# Altium integrated library ON Semi Transient Voltage Suppressors (TVS).IntLib: 730 symbols (part 7 of 17)
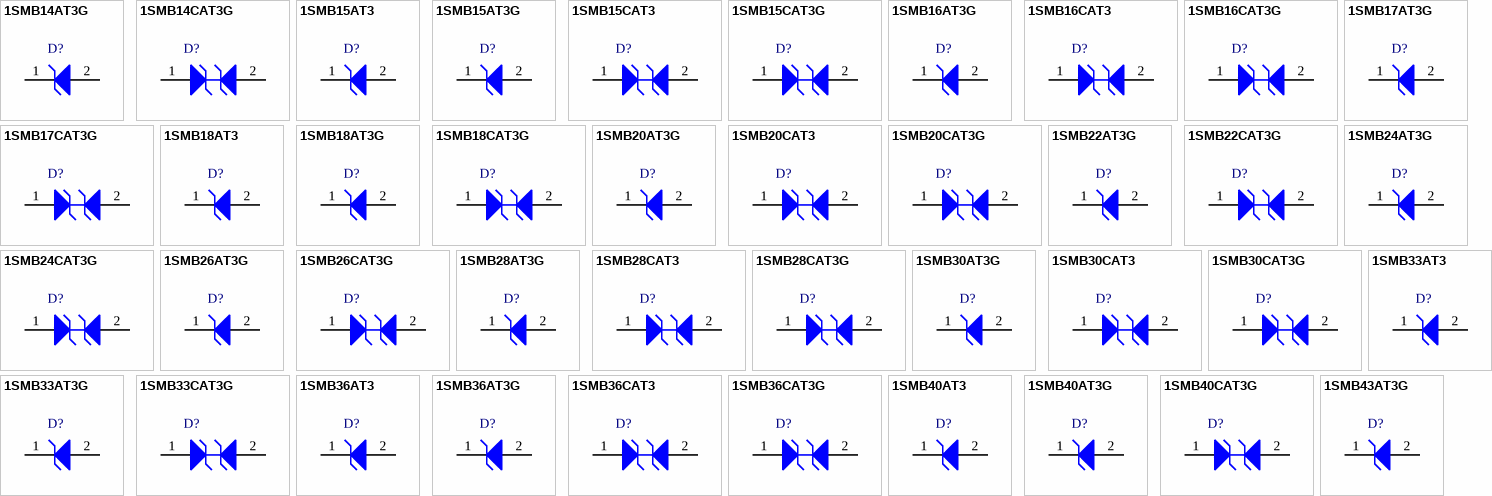
[diagram p24: symbols 1SMB14AT3G to 1SMB43AT3G]

## 1SMB33AT3G
designator D?
600 W Peak Power Zener Transient Voltage Suppressor, Unidirectional, 2-Pin SMB, Pb-Free, Tape and Reel; Manufacturer: On Semiconductor; PartNumber: 1SMB33AT3G; IR Max (uA): 5; PPK Max (W): 600; V(BR) Typ (V): 38.65; DatasheetVersion: Rev. 13; PackageVersion: Rev. H, 05/2011; PackageReference: SMB-2-403A-03_H; PackageDescription: 2-Pin Small Molded Package, J-Bend Lead, Body 4.33 x 3.625 mm; Supplier 1: Digi-Key; Supplier Part Number 1: 1SMB33AT3GOSTR-ND; Supplier 2: Digi-Key; Supplier Part Number 2: 1SMB33AT3GOSCT-ND; Supplier 3: Digi-Key; Supplier Part Number 3: 1SMB33AT3GOSDKR-ND; Supplier 4: Farnell; Supplier Part Number 4: 1150535; Supplier 5: Newark; Supplier Part Number 5: 45J2440; Supplier 6: Mouser; Supplier Part Number 6: 863-1SMB33AT3G; Direction: Unidirectional; Packing: Tape and Reel; RoHS: Pb-Free; Mounting Technology: Surface Mount; ComponentLink1Description: Manufacturer URL; ComponentLink1URL: http://www.onsemi.com/; ComponentLink2Description: Datasheet; ComponentLink2URL: http://www.onsemi.com/pub_link/Collateral/1SMB5.0AT3-D.PDF; ComponentLink3Description: Package Specification; ComponentLink3URL: http://www.onsemi.com/pub_link/Collateral/1SMB5913BT3-D.PDF
footprint ONSC-SMB-2-403A-03_H_V (Molded, 2-Leads, Body 4.6x3.95mm)
pins: 1 K, 2 A

## 1SMB33CAT3G
designator D?
600 W Peak Power Zener Transient Voltage Suppressor, Bidirectional, 2-Pin SMB, Pb-Free, Tape and Reel; Manufacturer: On Semiconductor; PartNumber: 1SMB33CAT3G; IR Max (uA): 5; PPK Max (W): 600; V(BR) Typ (V): 38.63; DatasheetVersion: Rev. A; PackageVersion: Rev. A, 01/2000; PackageReference: SMB-2-403C-01; PackageDescription: 2-Pin Small Molded Package, J-Bend Lead, Body 4.315 x 3.555 mm; Supplier 1: Digi-Key; Supplier Part Number 1: 1SMB33CAT3GOSTR-ND; Supplier 2: Digi-Key; Supplier Part Number 2: 1SMB33CAT3GOSCT-ND; Supplier 3: Digi-Key; Supplier Part Number 3: 1SMB33CAT3GOSDKR-ND; Supplier 4: Newark; Supplier Part Number 4: 45J2441; Supplier 5: Newark; Supplier Part Number 5: 09R9828; Supplier 6: Mouser; Supplier Part Number 6: 863-1SMB33CAT3G; Direction: Bidirectional; Packing: Tape and Reel; RoHS: Pb-Free; Mounting Technology: Surface Mount; ComponentLink1Description: Manufacturer URL; ComponentLink1URL: http://www.onsemi.com/; ComponentLink2Description: Datasheet; ComponentLink2URL: http://www.onsemi.com/pub_link/Collateral/1SMB10CAT3-D.PDF; ComponentLink3Description: Package Specification; ComponentLink3URL: http://www.onsemi.com/pub_link/Collateral/1SMB10CAT3-D.PDF
footprint ONSC-SMB-2-403C-01_V (SOJ, 2-Leads, Body 4.57x3.81mm)
pins: 1 A1, 2 A2

## 1SMB36AT3
designator D?
600 W Peak Power Zener Transient Voltage Suppressor, Unidirectional, 2-Pin SMB, Tape and Reel; Manufacturer: On Semiconductor; PartNumber: 1SMB36AT3; IR Max (uA): 5; PPK Max (W): 600; V(BR) Typ (V): 42.1; DatasheetVersion: Rev. 13; PackageVersion: Rev. H, 05/2011; PackageReference: SMB-2-403A-03_H; PackageDescription: 2-Pin Small Molded Package, J-Bend Lead, Body 4.33 x 3.625 mm; Supplier 1: Digi-Key; Supplier Part Number 1: 1SMB36AT3OSCT-ND; Supplier 2: Digi-Key; Supplier Part Number 2: 1SMB36AT3OSDKR-ND; Direction: Unidirectional; Packing: Tape and Reel; Mounting Technology: Surface Mount; ComponentLink1Description: Manufacturer URL; ComponentLink1URL: http://www.onsemi.com/; ComponentLink2Description: Datasheet; ComponentLink2URL: http://www.onsemi.com/pub_link/Collateral/1SMB5.0AT3-D.PDF; ComponentLink3Description: Package Specification; ComponentLink3URL: http://www.onsemi.com/pub_link/Collateral/1SMB5913BT3-D.PDF
footprint ONSC-SMB-2-403A-03_H_V (Molded, 2-Leads, Body 4.6x3.95mm)
pins: 1 K, 2 A

## 1SMB36AT3G
designator D?
600 W Peak Power Zener Transient Voltage Suppressor, Unidirectional, 2-Pin SMB, Pb-Free, Tape and Reel; Manufacturer: On Semiconductor; PartNumber: 1SMB36AT3G; IR Max (uA): 5; PPK Max (W): 600; V(BR) Typ (V): 42.1; DatasheetVersion: Rev. 13; PackageVersion: Rev. H, 05/2011; PackageReference: SMB-2-403A-03_H; PackageDescription: 2-Pin Small Molded Package, J-Bend Lead, Body 4.33 x 3.625 mm; Supplier 1: Digi-Key; Supplier Part Number 1: 1SMB36AT3GOSTR-ND; Supplier 2: Digi-Key; Supplier Part Number 2: 1SMB36AT3GOSCT-ND; Supplier 3: Digi-Key; Supplier Part Number 3: 1SMB36AT3GOSDKR-ND; Supplier 4: Farnell; Supplier Part Number 4: 2101836; Supplier 5: Newark; Supplier Part Number 5: 45J2442; Supplier 6: Mouser; Supplier Part Number 6: 863-1SMB36AT3G; Direction: Unidirectional; Packing: Tape and Reel; RoHS: Pb-Free; Mounting Technology: Surface Mount; ComponentLink1Description: Manufacturer URL; ComponentLink1URL: http://www.onsemi.com/; ComponentLink2Description: Datasheet; ComponentLink2URL: http://www.onsemi.com/pub_link/Collateral/1SMB5.0AT3-D.PDF; ComponentLink3Description: Package Specification; ComponentLink3URL: http://www.onsemi.com/pub_link/Collateral/1SMB5913BT3-D.PDF
footprint ONSC-SMB-2-403A-03_H_V (Molded, 2-Leads, Body 4.6x3.95mm)
pins: 1 K, 2 A

## 1SMB36CAT3
designator D?
600 W Peak Power Zener Transient Voltage Suppressor, Bidirectional, 2-Pin SMB, Tape and Reel; Manufacturer: On Semiconductor; PartNumber: 1SMB36CAT3; IR Max (uA): 5; PPK Max (W): 600; V(BR) Typ (V): 42.11; DatasheetVersion: Rev. A; PackageVersion: Rev. A, 01/2000; PackageReference: SMB-2-403C-01; PackageDescription: 2-Pin Small Molded Package, J-Bend Lead, Body 4.315 x 3.555 mm; Supplier 1: Digi-Key; Supplier Part Number 1: 1SMB36CAT3OSCT-ND; Supplier 2: Digi-Key; Supplier Part Number 2: 1SMB36CAT3OSDKR-ND; Direction: Bidirectional; Packing: Tape and Reel; Mounting Technology: Surface Mount; ComponentLink1Description: Manufacturer URL; ComponentLink1URL: http://www.onsemi.com/; ComponentLink2Description: Datasheet; ComponentLink2URL: http://www.onsemi.com/pub_link/Collateral/1SMB10CAT3-D.PDF; ComponentLink3Description: Package Specification; ComponentLink3URL: http://www.onsemi.com/pub_link/Collateral/1SMB10CAT3-D.PDF
footprint ONSC-SMB-2-403C-01_V (SOJ, 2-Leads, Body 4.57x3.81mm)
pins: 1 A1, 2 A2

## 1SMB36CAT3G
designator D?
600 W Peak Power Zener Transient Voltage Suppressor, Bidirectional, 2-Pin SMB, Pb-Free, Tape and Reel; Manufacturer: On Semiconductor; PartNumber: 1SMB36CAT3G; IR Max (uA): 5; PPK Max (W): 600; V(BR) Typ (V): 42.11; DatasheetVersion: Rev. A; PackageVersion: Rev. A, 01/2000; PackageReference: SMB-2-403C-01; PackageDescription: 2-Pin Small Molded Package, J-Bend Lead, Body 4.315 x 3.555 mm; Supplier 1: Digi-Key; Supplier Part Number 1: 1SMB36CAT3GOSTR-ND; Supplier 2: Digi-Key; Supplier Part Number 2: 1SMB36CAT3GOSCT-ND; Supplier 3: Digi-Key; Supplier Part Number 3: 1SMB36CAT3GOSDKR-ND; Supplier 4: Farnell; Supplier Part Number 4: 2371490; Supplier 5: Newark; Supplier Part Number 5: 79R9027; Supplier 6: Newark; Supplier Part Number 6: 26K5266; Supplier 7: Mouser; Supplier Part Number 7: 863-1SMB36CAT3G; Direction: Bidirectional; Packing: Tape and Reel; RoHS: Pb-Free; Mounting Technology: Surface Mount; ComponentLink1Description: Manufacturer URL; ComponentLink1URL: http://www.onsemi.com/; ComponentLink2Description: Datasheet; ComponentLink2URL: http://www.onsemi.com/pub_link/Collateral/1SMB10CAT3-D.PDF; ComponentLink3Description: Package Specification; ComponentLink3URL: http://www.onsemi.com/pub_link/Collateral/1SMB10CAT3-D.PDF
footprint ONSC-SMB-2-403C-01_V (SOJ, 2-Leads, Body 4.57x3.81mm)
pins: 1 A1, 2 A2

## 1SMB40AT3
designator D?
600 W Peak Power Zener Transient Voltage Suppressor, Unidirectional, 2-Pin SMB, Tape and Reel; Manufacturer: On Semiconductor; PartNumber: 1SMB40AT3; IR Max (uA): 5; PPK Max (W): 600; V(BR) Typ (V): 46.75; DatasheetVersion: Rev. 13; PackageVersion: Rev. H, 05/2011; PackageReference: SMB-2-403A-03_H; PackageDescription: 2-Pin Small Molded Package, J-Bend Lead, Body 4.33 x 3.625 mm; Supplier 1: Digi-Key; Supplier Part Number 1: 1SMB40AT3OSCT-ND; Supplier 2: Digi-Key; Supplier Part Number 2: 1SMB40AT3OSDKR-ND; Direction: Unidirectional; Packing: Tape and Reel; Mounting Technology: Surface Mount; ComponentLink1Description: Manufacturer URL; ComponentLink1URL: http://www.onsemi.com/; ComponentLink2Description: Datasheet; ComponentLink2URL: http://www.onsemi.com/pub_link/Collateral/1SMB5.0AT3-D.PDF; ComponentLink3Description: Package Specification; ComponentLink3URL: http://www.onsemi.com/pub_link/Collateral/1SMB5913BT3-D.PDF
footprint ONSC-SMB-2-403A-03_H_V (Molded, 2-Leads, Body 4.6x3.95mm)
pins: 1 K, 2 A

## 1SMB40AT3G
designator D?
600 W Peak Power Zener Transient Voltage Suppressor, Unidirectional, 2-Pin SMB, Pb-Free, Tape and Reel; Manufacturer: On Semiconductor; PartNumber: 1SMB40AT3G; IR Max (uA): 5; PPK Max (W): 600; V(BR) Typ (V): 46.75; DatasheetVersion: Rev. 13; PackageVersion: Rev. H, 05/2011; PackageReference: SMB-2-403A-03_H; PackageDescription: 2-Pin Small Molded Package, J-Bend Lead, Body 4.33 x 3.625 mm; Supplier 1: Digi-Key; Supplier Part Number 1: 1SMB40AT3GOSTR-ND; Supplier 2: Digi-Key; Supplier Part Number 2: 1SMB40AT3GOSCT-ND; Supplier 3: Digi-Key; Supplier Part Number 3: 1SMB40AT3GOSDKR-ND; Supplier 4: Farnell; Supplier Part Number 4: 1889174; Supplier 5: Newark; Supplier Part Number 5: 10N9660; Supplier 6: Newark; Supplier Part Number 6: 45J2443; Supplier 7: Mouser; Supplier Part Number 7: 863-1SMB40AT3G; Direction: Unidirectional; Packing: Tape and Reel; RoHS: Pb-Free; Mounting Technology: Surface Mount; ComponentLink1Description: Manufacturer URL; ComponentLink1URL: http://www.onsemi.com/; ComponentLink2Description: Datasheet; ComponentLink2URL: http://www.onsemi.com/pub_link/Collateral/1SMB5.0AT3-D.PDF; ComponentLink3Description: Package Specification; ComponentLink3URL: http://www.onsemi.com/pub_link/Collateral/1SMB5913BT3-D.PDF
footprint ONSC-SMB-2-403A-03_H_V (Molded, 2-Leads, Body 4.6x3.95mm)
pins: 1 K, 2 A

## 1SMB40CAT3G
designator D?
600 W Peak Power Zener Transient Voltage Suppressor, Bidirectional, 2-Pin SMB, Pb-Free, Tape and Reel; Manufacturer: On Semiconductor; PartNumber: 1SMB40CAT3G; IR Max (uA): 5; PPK Max (W): 600; V(BR) Typ (V): 46.74; DatasheetVersion: Rev. A; PackageVersion: Rev. A, 01/2000; PackageReference: SMB-2-403C-01; PackageDescription: 2-Pin Small Molded Package, J-Bend Lead, Body 4.315 x 3.555 mm; Supplier 1: Digi-Key; Supplier Part Number 1: 1SMB40CAT3GOSTR-ND; Supplier 2: Digi-Key; Supplier Part Number 2: 1SMB40CAT3GOSCT-ND; Supplier 3: Digi-Key; Supplier Part Number 3: 1SMB40CAT3GOSDKR-ND; Supplier 4: Newark; Supplier Part Number 4: 10N9661; Supplier 5: Mouser; Supplier Part Number 5: 863-1SMB40CAT3G; Direction: Bidirectional; Packing: Tape and Reel; RoHS: Pb-Free; Mounting Technology: Surface Mount; ComponentLink1Description: Manufacturer URL; ComponentLink1URL: http://www.onsemi.com/; ComponentLink2Description: Datasheet; ComponentLink2URL: http://www.onsemi.com/pub_link/Collateral/1SMB10CAT3-D.PDF; ComponentLink3Description: Package Specification; ComponentLink3URL: http://www.onsemi.com/pub_link/Collateral/1SMB10CAT3-D.PDF
footprint ONSC-SMB-2-403C-01_V (SOJ, 2-Leads, Body 4.57x3.81mm)
pins: 1 A1, 2 A2

## 1SMB43AT3G
designator D?
600 W Peak Power Zener Transient Voltage Suppressor, Unidirectional, 2-Pin SMB, Pb-Free, Tape and Reel; Manufacturer: On Semiconductor; PartNumber: 1SMB43AT3G; IR Max (uA): 5; PPK Max (W): 600; V(BR) Typ (V): 50.3; DatasheetVersion: Rev. 13; PackageVersion: Rev. H, 05/2011; PackageReference: SMB-2-403A-03_H; PackageDescription: 2-Pin Small Molded Package, J-Bend Lead, Body 4.33 x 3.625 mm; Supplier 1: Digi-Key; Supplier Part Number 1: 1SMB43AT3GOSTR-ND; Supplier 2: Digi-Key; Supplier Part Number 2: 1SMB43AT3GOSCT-ND; Supplier 3: Digi-Key; Supplier Part Number 3: 1SMB43AT3GOSDKR-ND; Supplier 4: Newark; Supplier Part Number 4: 10N9662; Supplier 5: Newark; Supplier Part Number 5: 71J9209; Supplier 6: Mouser; Supplier Part Number 6: 863-1SMB43AT3G; Direction: Unidirectional; Packing: Tape and Reel; RoHS: Pb-Free; Mounting Technology: Surface Mount; ComponentLink1Description: Manufacturer URL; ComponentLink1URL: http://www.onsemi.com/; ComponentLink2Description: Datasheet; ComponentLink2URL: http://www.onsemi.com/pub_link/Collateral/1SMB5.0AT3-D.PDF; ComponentLink3Description: Package Specification; ComponentLink3URL: http://www.onsemi.com/pub_link/Collateral/1SMB5913BT3-D.PDF
footprint ONSC-SMB-2-403A-03_H_V (Molded, 2-Leads, Body 4.6x3.95mm)
pins: 1 K, 2 A

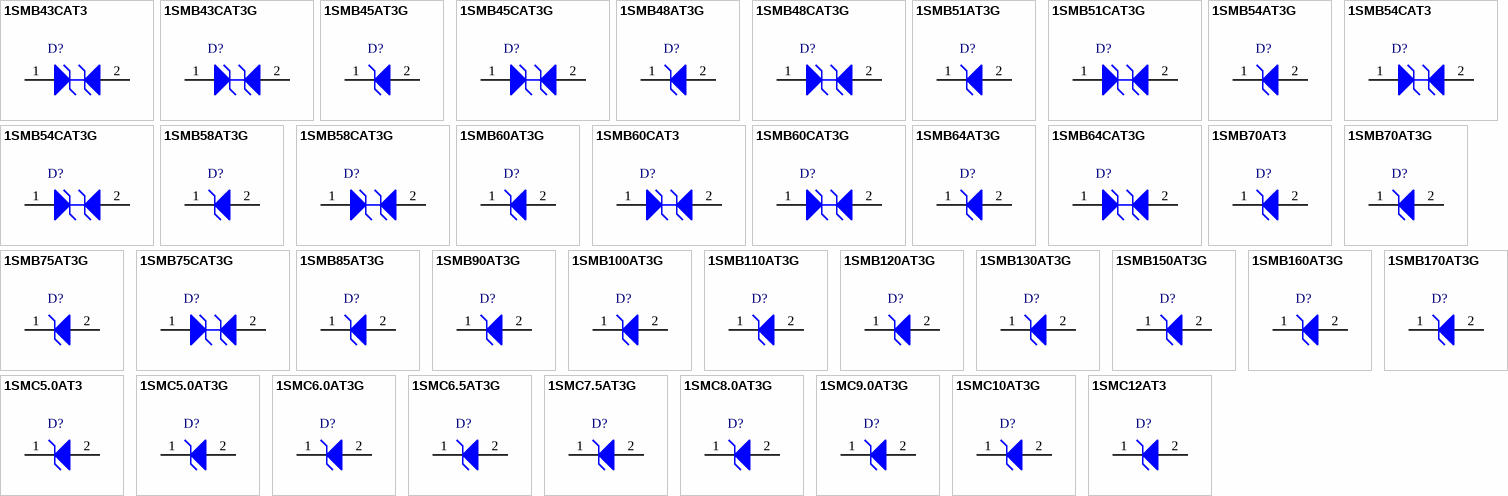
[diagram p7: symbols 1SMB43CAT3 to 1SMC12AT3]

## 1SMB43CAT3
designator D?
600 W Peak Power Zener Transient Voltage Suppressor, Bidirectional, 2-Pin SMB, Tape and Reel; Manufacturer: On Semiconductor; PartNumber: 1SMB43CAT3; IR Max (uA): 5; PPK Max (W): 600; V(BR) Typ (V): 50.32; DatasheetVersion: Rev. A; PackageVersion: Rev. A, 01/2000; PackageReference: SMB-2-403C-01; PackageDescription: 2-Pin Small Molded Package, J-Bend Lead, Body 4.315 x 3.555 mm; Supplier 1: Digi-Key; Supplier Part Number 1: 1SMB43CAT3-ND; Direction: Bidirectional; Packing: Tape and Reel; Mounting Technology: Surface Mount; ComponentLink1Description: Manufacturer URL; ComponentLink1URL: http://www.onsemi.com/; ComponentLink2Description: Datasheet; ComponentLink2URL: http://www.onsemi.com/pub_link/Collateral/1SMB10CAT3-D.PDF; ComponentLink3Description: Package Specification; ComponentLink3URL: http://www.onsemi.com/pub_link/Collateral/1SMB10CAT3-D.PDF
footprint ONSC-SMB-2-403C-01_V (SOJ, 2-Leads, Body 4.57x3.81mm)
pins: 1 A1, 2 A2

## 1SMB43CAT3G
designator D?
600 W Peak Power Zener Transient Voltage Suppressor, Bidirectional, 2-Pin SMB, Pb-Free, Tape and Reel; Manufacturer: On Semiconductor; PartNumber: 1SMB43CAT3G; IR Max (uA): 5; PPK Max (W): 600; V(BR) Typ (V): 50.32; DatasheetVersion: Rev. A; PackageVersion: Rev. A, 01/2000; PackageReference: SMB-2-403C-01; PackageDescription: 2-Pin Small Molded Package, J-Bend Lead, Body 4.315 x 3.555 mm; Supplier 1: Digi-Key; Supplier Part Number 1: 1SMB43CAT3G-ND; Supplier 2: Newark; Supplier Part Number 2: 42K3089; Supplier 3: Mouser; Supplier Part Number 3: 863-1SMB43CAT3G; Direction: Bidirectional; Packing: Tape and Reel; RoHS: Pb-Free; Mounting Technology: Surface Mount; ComponentLink1Description: Manufacturer URL; ComponentLink1URL: http://www.onsemi.com/; ComponentLink2Description: Datasheet; ComponentLink2URL: http://www.onsemi.com/pub_link/Collateral/1SMB10CAT3-D.PDF; ComponentLink3Description: Package Specification; ComponentLink3URL: http://www.onsemi.com/pub_link/Collateral/1SMB10CAT3-D.PDF
footprint ONSC-SMB-2-403C-01_V (SOJ, 2-Leads, Body 4.57x3.81mm)
pins: 1 A1, 2 A2

## 1SMB45AT3G
designator D?
600 W Peak Power Zener Transient Voltage Suppressor, Unidirectional, 2-Pin SMB, Pb-Free, Tape and Reel; Manufacturer: On Semiconductor; PartNumber: 1SMB45AT3G; IR Max (uA): 5; PPK Max (W): 600; V(BR) Typ (V): 52.65; DatasheetVersion: Rev. 13; PackageVersion: Rev. H, 05/2011; PackageReference: SMB-2-403A-03_H; PackageDescription: 2-Pin Small Molded Package, J-Bend Lead, Body 4.33 x 3.625 mm; Supplier 1: Digi-Key; Supplier Part Number 1: 1SMB45AT3G-ND; Supplier 2: Newark; Supplier Part Number 2: 42K3090; Supplier 3: Mouser; Supplier Part Number 3: 863-1SMB45AT3G; Direction: Unidirectional; Packing: Tape and Reel; RoHS: Pb-Free; Mounting Technology: Surface Mount; ComponentLink1Description: Manufacturer URL; ComponentLink1URL: http://www.onsemi.com/; ComponentLink2Description: Datasheet; ComponentLink2URL: http://www.onsemi.com/pub_link/Collateral/1SMB5.0AT3-D.PDF; ComponentLink3Description: Package Specification; ComponentLink3URL: http://www.onsemi.com/pub_link/Collateral/1SMB5913BT3-D.PDF
footprint ONSC-SMB-2-403A-03_H_V (Molded, 2-Leads, Body 4.6x3.95mm)
pins: 1 K, 2 A

## 1SMB45CAT3G
designator D?
600 W Peak Power Zener Transient Voltage Suppressor, Bidirectional, 2-Pin SMB, Pb-Free, Tape and Reel; Manufacturer: On Semiconductor; PartNumber: 1SMB45CAT3G; IR Max (uA): 5; PPK Max (W): 600; V(BR) Typ (V): 52.63; DatasheetVersion: Rev. A; PackageVersion: Rev. A, 01/2000; PackageReference: SMB-2-403C-01; PackageDescription: 2-Pin Small Molded Package, J-Bend Lead, Body 4.315 x 3.555 mm; Supplier 1: Digi-Key; Supplier Part Number 1: 1SMB45CAT3G-ND; Supplier 2: Newark; Supplier Part Number 2: 42K3091; Supplier 3: Mouser; Supplier Part Number 3: 863-1SMB45CAT3G; Direction: Bidirectional; Packing: Tape and Reel; RoHS: Pb-Free; Mounting Technology: Surface Mount; ComponentLink1Description: Manufacturer URL; ComponentLink1URL: http://www.onsemi.com/; ComponentLink2Description: Datasheet; ComponentLink2URL: http://www.onsemi.com/pub_link/Collateral/1SMB10CAT3-D.PDF; ComponentLink3Description: Package Specification; ComponentLink3URL: http://www.onsemi.com/pub_link/Collateral/1SMB10CAT3-D.PDF
footprint ONSC-SMB-2-403C-01_V (SOJ, 2-Leads, Body 4.57x3.81mm)
pins: 1 A1, 2 A2

## 1SMB48AT3G
designator D?
600 W Peak Power Zener Transient Voltage Suppressor, Unidirectional, 2-Pin SMB, Pb-Free, Tape and Reel; Manufacturer: On Semiconductor; PartNumber: 1SMB48AT3G; IR Max (uA): 5; PPK Max (W): 600; V(BR) Typ (V): 56.1; DatasheetVersion: Rev. 13; PackageVersion: Rev. H, 05/2011; PackageReference: SMB-2-403A-03_H; PackageDescription: 2-Pin Small Molded Package, J-Bend Lead, Body 4.33 x 3.625 mm; Supplier 1: Digi-Key; Supplier Part Number 1: 1SMB48AT3GOSTR-ND; Supplier 2: Digi-Key; Supplier Part Number 2: 1SMB48AT3GOSCT-ND; Supplier 3: Digi-Key; Supplier Part Number 3: 1SMB48AT3GOSDKR-ND; Supplier 4: Farnell; Supplier Part Number 4: 1311218; Supplier 5: Newark; Supplier Part Number 5: 42K3092; Supplier 6: Mouser; Supplier Part Number 6: 863-1SMB48AT3G; Direction: Unidirectional; Packing: Tape and Reel; RoHS: Pb-Free; Mounting Technology: Surface Mount; ComponentLink1Description: Manufacturer URL; ComponentLink1URL: http://www.onsemi.com/; ComponentLink2Description: Datasheet; ComponentLink2URL: http://www.onsemi.com/pub_link/Collateral/1SMB5.0AT3-D.PDF; ComponentLink3Description: Package Specification; ComponentLink3URL: http://www.onsemi.com/pub_link/Collateral/1SMB5913BT3-D.PDF
footprint ONSC-SMB-2-403A-03_H_V (Molded, 2-Leads, Body 4.6x3.95mm)
pins: 1 K, 2 A

## 1SMB48CAT3G
designator D?
600 W Peak Power Zener Transient Voltage Suppressor, Bidirectional, 2-Pin SMB, Pb-Free, Tape and Reel; Manufacturer: On Semiconductor; PartNumber: 1SMB48CAT3G; IR Max (uA): 5; PPK Max (W): 600; V(BR) Typ (V): 56.11; DatasheetVersion: Rev. A; PackageVersion: Rev. A, 01/2000; PackageReference: SMB-2-403C-01; PackageDescription: 2-Pin Small Molded Package, J-Bend Lead, Body 4.315 x 3.555 mm; Supplier 1: Digi-Key; Supplier Part Number 1: 1SMB48CAT3GOSTR-ND; Supplier 2: Digi-Key; Supplier Part Number 2: 1SMB48CAT3GOSCT-ND; Supplier 3: Digi-Key; Supplier Part Number 3: 1SMB48CAT3GOSDKR-ND; Supplier 4: Newark; Supplier Part Number 4: 42K3093; Supplier 5: Mouser; Supplier Part Number 5: 863-1SMB48CAT3G; Direction: Bidirectional; Packing: Tape and Reel; RoHS: Pb-Free; Mounting Technology: Surface Mount; ComponentLink1Description: Manufacturer URL; ComponentLink1URL: http://www.onsemi.com/; ComponentLink2Description: Datasheet; ComponentLink2URL: http://www.onsemi.com/pub_link/Collateral/1SMB10CAT3-D.PDF; ComponentLink3Description: Package Specification; ComponentLink3URL: http://www.onsemi.com/pub_link/Collateral/1SMB10CAT3-D.PDF
footprint ONSC-SMB-2-403C-01_V (SOJ, 2-Leads, Body 4.57x3.81mm)
pins: 1 A1, 2 A2

## 1SMB51AT3G
designator D?
600 W Peak Power Zener Transient Voltage Suppressor, Unidirectional, 2-Pin SMB, Pb-Free, Tape and Reel; Manufacturer: On Semiconductor; PartNumber: 1SMB51AT3G; IR Max (uA): 5; PPK Max (W): 600; V(BR) Typ (V): 59.7; DatasheetVersion: Rev. 13; PackageVersion: Rev. H, 05/2011; PackageReference: SMB-2-403A-03_H; PackageDescription: 2-Pin Small Molded Package, J-Bend Lead, Body 4.33 x 3.625 mm; Supplier 1: Digi-Key; Supplier Part Number 1: 1SMB51AT3GOSTR-ND; Supplier 2: Digi-Key; Supplier Part Number 2: 1SMB51AT3GOSCT-ND; Supplier 3: Digi-Key; Supplier Part Number 3: 1SMB51AT3GOSDKR-ND; Supplier 4: Newark; Supplier Part Number 4: 71J9210; Supplier 5: Mouser; Supplier Part Number 5: 863-1SMB51AT3G; Direction: Unidirectional; Packing: Tape and Reel; RoHS: Pb-Free; Mounting Technology: Surface Mount; ComponentLink1Description: Manufacturer URL; ComponentLink1URL: http://www.onsemi.com/; ComponentLink2Description: Datasheet; ComponentLink2URL: http://www.onsemi.com/pub_link/Collateral/1SMB5.0AT3-D.PDF; ComponentLink3Description: Package Specification; ComponentLink3URL: http://www.onsemi.com/pub_link/Collateral/1SMB5913BT3-D.PDF
footprint ONSC-SMB-2-403A-03_H_V (Molded, 2-Leads, Body 4.6x3.95mm)
pins: 1 K, 2 A

## 1SMB51CAT3G
designator D?
600 W Peak Power Zener Transient Voltage Suppressor, Bidirectional, 2-Pin SMB, Pb-Free, Tape and Reel; Manufacturer: On Semiconductor; PartNumber: 1SMB51CAT3G; IR Max (uA): 5; PPK Max (W): 600; V(BR) Typ (V): 59.69; DatasheetVersion: Rev. A; PackageVersion: Rev. A, 01/2000; PackageReference: SMB-2-403C-01; PackageDescription: 2-Pin Small Molded Package, J-Bend Lead, Body 4.315 x 3.555 mm; Supplier 1: Digi-Key; Supplier Part Number 1: 1SMB51CAT3GOSTR-ND; Supplier 2: Digi-Key; Supplier Part Number 2: 1SMB51CAT3GOSCT-ND; Supplier 3: Digi-Key; Supplier Part Number 3: 1SMB51CAT3GOSDKR-ND; Supplier 4: Newark; Supplier Part Number 4: 71J9211; Supplier 5: Mouser; Supplier Part Number 5: 863-1SMB51CAT3G; Direction: Bidirectional; Packing: Tape and Reel; RoHS: Pb-Free; Mounting Technology: Surface Mount; ComponentLink1Description: Manufacturer URL; ComponentLink1URL: http://www.onsemi.com/; ComponentLink2Description: Datasheet; ComponentLink2URL: http://www.onsemi.com/pub_link/Collateral/1SMB10CAT3-D.PDF; ComponentLink3Description: Package Specification; ComponentLink3URL: http://www.onsemi.com/pub_link/Collateral/1SMB10CAT3-D.PDF
footprint ONSC-SMB-2-403C-01_V (SOJ, 2-Leads, Body 4.57x3.81mm)
pins: 1 A1, 2 A2

## 1SMB54AT3G
designator D?
600 W Peak Power Zener Transient Voltage Suppressor, Unidirectional, 2-Pin SMB, Pb-Free, Tape and Reel; Manufacturer: On Semiconductor; PartNumber: 1SMB54AT3G; IR Max (uA): 5; PPK Max (W): 600; V(BR) Typ (V): 63.15; DatasheetVersion: Rev. 13; PackageVersion: Rev. H, 05/2011; PackageReference: SMB-2-403A-03_H; PackageDescription: 2-Pin Small Molded Package, J-Bend Lead, Body 4.33 x 3.625 mm; Supplier 1: Digi-Key; Supplier Part Number 1: 1SMB54AT3GOSTR-ND; Supplier 2: Digi-Key; Supplier Part Number 2: 1SMB54AT3GOSCT-ND; Supplier 3: Digi-Key; Supplier Part Number 3: 1SMB54AT3GOSDKR-ND; Supplier 4: Newark; Supplier Part Number 4: 10N9663; Supplier 5: Newark; Supplier Part Number 5: 45J2446; Supplier 6: Mouser; Supplier Part Number 6: 863-1SMB54AT3G; Direction: Unidirectional; Packing: Tape and Reel; RoHS: Pb-Free; Mounting Technology: Surface Mount; ComponentLink1Description: Manufacturer URL; ComponentLink1URL: http://www.onsemi.com/; ComponentLink2Description: Datasheet; ComponentLink2URL: http://www.onsemi.com/pub_link/Collateral/1SMB5.0AT3-D.PDF; ComponentLink3Description: Package Specification; ComponentLink3URL: http://www.onsemi.com/pub_link/Collateral/1SMB5913BT3-D.PDF
footprint ONSC-SMB-2-403A-03_H_V (Molded, 2-Leads, Body 4.6x3.95mm)
pins: 1 K, 2 A

## 1SMB54CAT3
designator D?
600 W Peak Power Zener Transient Voltage Suppressor, Bidirectional, 2-Pin SMB, Tape and Reel; Manufacturer: On Semiconductor; PartNumber: 1SMB54CAT3; IR Max (uA): 5; PPK Max (W): 600; V(BR) Typ (V): 63.16; DatasheetVersion: Rev. A; PackageVersion: Rev. A, 01/2000; PackageReference: SMB-2-403C-01; PackageDescription: 2-Pin Small Molded Package, J-Bend Lead, Body 4.315 x 3.555 mm; Supplier 1: Digi-Key; Supplier Part Number 1: 1SMB54CAT3-ND; Direction: Bidirectional; Packing: Tape and Reel; Mounting Technology: Surface Mount; ComponentLink1Description: Manufacturer URL; ComponentLink1URL: http://www.onsemi.com/; ComponentLink2Description: Datasheet; ComponentLink2URL: http://www.onsemi.com/pub_link/Collateral/1SMB10CAT3-D.PDF; ComponentLink3Description: Package Specification; ComponentLink3URL: http://www.onsemi.com/pub_link/Collateral/1SMB10CAT3-D.PDF
footprint ONSC-SMB-2-403C-01_V (SOJ, 2-Leads, Body 4.57x3.81mm)
pins: 1 A1, 2 A2

## 1SMB54CAT3G
designator D?
600 W Peak Power Zener Transient Voltage Suppressor, Bidirectional, 2-Pin SMB, Pb-Free, Tape and Reel; Manufacturer: On Semiconductor; PartNumber: 1SMB54CAT3G; IR Max (uA): 5; PPK Max (W): 600; V(BR) Typ (V): 63.16; DatasheetVersion: Rev. A; PackageVersion: Rev. A, 01/2000; PackageReference: SMB-2-403C-01; PackageDescription: 2-Pin Small Molded Package, J-Bend Lead, Body 4.315 x 3.555 mm; Supplier 1: Digi-Key; Supplier Part Number 1: 1SMB54CAT3G-ND; Supplier 2: Mouser; Supplier Part Number 2: 863-1SMB54CAT3G; Direction: Bidirectional; Packing: Tape and Reel; RoHS: Pb-Free; Mounting Technology: Surface Mount; ComponentLink1Description: Manufacturer URL; ComponentLink1URL: http://www.onsemi.com/; ComponentLink2Description: Datasheet; ComponentLink2URL: http://www.onsemi.com/pub_link/Collateral/1SMB10CAT3-D.PDF; ComponentLink3Description: Package Specification; ComponentLink3URL: http://www.onsemi.com/pub_link/Collateral/1SMB10CAT3-D.PDF
footprint ONSC-SMB-2-403C-01_V (SOJ, 2-Leads, Body 4.57x3.81mm)
pins: 1 A1, 2 A2

## 1SMB58AT3G
designator D?
600 W Peak Power Zener Transient Voltage Suppressor, Unidirectional, 2-Pin SMB, Pb-Free, Tape and Reel; Manufacturer: On Semiconductor; PartNumber: 1SMB58AT3G; IR Max (uA): 5; PPK Max (W): 600; V(BR) Typ (V): 67.8; DatasheetVersion: Rev. 13; PackageVersion: Rev. H, 05/2011; PackageReference: SMB-2-403A-03_H; PackageDescription: 2-Pin Small Molded Package, J-Bend Lead, Body 4.33 x 3.625 mm; Supplier 1: Digi-Key; Supplier Part Number 1: 1SMB58AT3GOSTR-ND; Supplier 2: Digi-Key; Supplier Part Number 2: 1SMB58AT3GOSCT-ND; Supplier 3: Digi-Key; Supplier Part Number 3: 1SMB58AT3GOSDKR-ND; Supplier 4: Newark; Supplier Part Number 4: 45J2447; Supplier 5: Mouser; Supplier Part Number 5: 863-1SMB58AT3G; Direction: Unidirectional; Packing: Tape and Reel; RoHS: Pb-Free; Mounting Technology: Surface Mount; ComponentLink1Description: Manufacturer URL; ComponentLink1URL: http://www.onsemi.com/; ComponentLink2Description: Datasheet; ComponentLink2URL: http://www.onsemi.com/pub_link/Collateral/1SMB5.0AT3-D.PDF; ComponentLink3Description: Package Specification; ComponentLink3URL: http://www.onsemi.com/pub_link/Collateral/1SMB5913BT3-D.PDF
footprint ONSC-SMB-2-403A-03_H_V (Molded, 2-Leads, Body 4.6x3.95mm)
pins: 1 K, 2 A

## 1SMB58CAT3G
designator D?
600 W Peak Power Zener Transient Voltage Suppressor, Bidirectional, 2-Pin SMB, Pb-Free, Tape and Reel; Manufacturer: On Semiconductor; PartNumber: 1SMB58CAT3G; IR Max (uA): 5; PPK Max (W): 600; V(BR) Typ (V): 67.79; DatasheetVersion: Rev. A; PackageVersion: Rev. A, 01/2000; PackageReference: SMB-2-403C-01; PackageDescription: 2-Pin Small Molded Package, J-Bend Lead, Body 4.315 x 3.555 mm; Supplier 1: Digi-Key; Supplier Part Number 1: 1SMB58CAT3GOSTR-ND; Supplier 2: Digi-Key; Supplier Part Number 2: 1SMB58CAT3GOSCT-ND; Supplier 3: Digi-Key; Supplier Part Number 3: 1SMB58CAT3GOSDKR-ND; Supplier 4: Newark; Supplier Part Number 4: 42K3094; Supplier 5: Mouser; Supplier Part Number 5: 863-1SMB58CAT3G; Direction: Bidirectional; Packing: Tape and Reel; RoHS: Pb-Free; Mounting Technology: Surface Mount; ComponentLink1Description: Manufacturer URL; ComponentLink1URL: http://www.onsemi.com/; ComponentLink2Description: Datasheet; ComponentLink2URL: http://www.onsemi.com/pub_link/Collateral/1SMB10CAT3-D.PDF; ComponentLink3Description: Package Specification; ComponentLink3URL: http://www.onsemi.com/pub_link/Collateral/1SMB10CAT3-D.PDF
footprint ONSC-SMB-2-403C-01_V (SOJ, 2-Leads, Body 4.57x3.81mm)
pins: 1 A1, 2 A2

## 1SMB60AT3G
designator D?
600 W Peak Power Zener Transient Voltage Suppressor, Unidirectional, 2-Pin SMB, Pb-Free, Tape and Reel; Manufacturer: On Semiconductor; PartNumber: 1SMB60AT3G; IR Max (uA): 5; PPK Max (W): 600; V(BR) Typ (V): 70.2; DatasheetVersion: Rev. 13; PackageVersion: Rev. H, 05/2011; PackageReference: SMB-2-403A-03_H; PackageDescription: 2-Pin Small Molded Package, J-Bend Lead, Body 4.33 x 3.625 mm; Supplier 1: Digi-Key; Supplier Part Number 1: 1SMB60AT3GOSTR-ND; Supplier 2: Digi-Key; Supplier Part Number 2: 1SMB60AT3GOSCT-ND; Supplier 3: Digi-Key; Supplier Part Number 3: 1SMB60AT3GOSDKR-ND; Supplier 4: Newark; Supplier Part Number 4: 42K3102; Supplier 5: Newark; Supplier Part Number 5: 10N9671; Supplier 6: Mouser; Supplier Part Number 6: 863-1SMB60AT3G; Direction: Unidirectional; Packing: Tape and Reel; RoHS: Pb-Free; Mounting Technology: Surface Mount; ComponentLink1Description: Manufacturer URL; ComponentLink1URL: http://www.onsemi.com/; ComponentLink2Description: Datasheet; ComponentLink2URL: http://www.onsemi.com/pub_link/Collateral/1SMB5.0AT3-D.PDF; ComponentLink3Description: Package Specification; ComponentLink3URL: http://www.onsemi.com/pub_link/Collateral/1SMB5913BT3-D.PDF
footprint ONSC-SMB-2-403A-03_H_V (Molded, 2-Leads, Body 4.6x3.95mm)
pins: 1 K, 2 A

## 1SMB60CAT3
designator D?
600 W Peak Power Zener Transient Voltage Suppressor, Bidirectional, 2-Pin SMB, Tape and Reel; Manufacturer: On Semiconductor; PartNumber: 1SMB60CAT3; IR Max (uA): 5; PPK Max (W): 600; V(BR) Typ (V): 70.21; DatasheetVersion: Rev. A; PackageVersion: Rev. A, 01/2000; PackageReference: SMB-2-403C-01; PackageDescription: 2-Pin Small Molded Package, J-Bend Lead, Body 4.315 x 3.555 mm; Supplier 1: Digi-Key; Supplier Part Number 1: 1SMB60CAT3-ND; Direction: Bidirectional; Packing: Tape and Reel; Mounting Technology: Surface Mount; ComponentLink1Description: Manufacturer URL; ComponentLink1URL: http://www.onsemi.com/; ComponentLink2Description: Datasheet; ComponentLink2URL: http://www.onsemi.com/pub_link/Collateral/1SMB10CAT3-D.PDF; ComponentLink3Description: Package Specification; ComponentLink3URL: http://www.onsemi.com/pub_link/Collateral/1SMB10CAT3-D.PDF
footprint ONSC-SMB-2-403C-01_V (SOJ, 2-Leads, Body 4.57x3.81mm)
pins: 1 A1, 2 A2

## 1SMB60CAT3G
designator D?
600 W Peak Power Zener Transient Voltage Suppressor, Bidirectional, 2-Pin SMB, Pb-Free, Tape and Reel; Manufacturer: On Semiconductor; PartNumber: 1SMB60CAT3G; IR Max (uA): 5; PPK Max (W): 600; V(BR) Typ (V): 70.21; DatasheetVersion: Rev. A; PackageVersion: Rev. A, 01/2000; PackageReference: SMB-2-403C-01; PackageDescription: 2-Pin Small Molded Package, J-Bend Lead, Body 4.315 x 3.555 mm; Supplier 1: Digi-Key; Supplier Part Number 1: 1SMB60CAT3G-ND; Supplier 2: Mouser; Supplier Part Number 2: 863-1SMB60CAT3G; Direction: Bidirectional; Packing: Tape and Reel; RoHS: Pb-Free; Mounting Technology: Surface Mount; ComponentLink1Description: Manufacturer URL; ComponentLink1URL: http://www.onsemi.com/; ComponentLink2Description: Datasheet; ComponentLink2URL: http://www.onsemi.com/pub_link/Collateral/1SMB10CAT3-D.PDF; ComponentLink3Description: Package Specification; ComponentLink3URL: http://www.onsemi.com/pub_link/Collateral/1SMB10CAT3-D.PDF
footprint ONSC-SMB-2-403C-01_V (SOJ, 2-Leads, Body 4.57x3.81mm)
pins: 1 A1, 2 A2

## 1SMB64AT3G
designator D?
600 W Peak Power Zener Transient Voltage Suppressor, Unidirectional, 2-Pin SMB, Pb-Free, Tape and Reel; Manufacturer: On Semiconductor; PartNumber: 1SMB64AT3G; IR Max (uA): 5; PPK Max (W): 600; V(BR) Typ (V): 74.85; DatasheetVersion: Rev. 13; PackageVersion: Rev. H, 05/2011; PackageReference: SMB-2-403A-03_H; PackageDescription: 2-Pin Small Molded Package, J-Bend Lead, Body 4.33 x 3.625 mm; Supplier 1: Digi-Key; Supplier Part Number 1: 1SMB64AT3G-ND; Supplier 2: Newark; Supplier Part Number 2: 71J9231; Supplier 3: Mouser; Supplier Part Number 3: 863-1SMB64AT3G; Direction: Unidirectional; Packing: Tape and Reel; RoHS: Pb-Free; Mounting Technology: Surface Mount; ComponentLink1Description: Manufacturer URL; ComponentLink1URL: http://www.onsemi.com/; ComponentLink2Description: Datasheet; ComponentLink2URL: http://www.onsemi.com/pub_link/Collateral/1SMB5.0AT3-D.PDF; ComponentLink3Description: Package Specification; ComponentLink3URL: http://www.onsemi.com/pub_link/Collateral/1SMB5913BT3-D.PDF
footprint ONSC-SMB-2-403A-03_H_V (Molded, 2-Leads, Body 4.6x3.95mm)
pins: 1 K, 2 A

## 1SMB64CAT3G
designator D?
600 W Peak Power Zener Transient Voltage Suppressor, Bidirectional, 2-Pin SMB, Pb-Free, Tape and Reel; Manufacturer: On Semiconductor; PartNumber: 1SMB64CAT3G; IR Max (uA): 5; PPK Max (W): 600; V(BR) Typ (V): 74.84; DatasheetVersion: Rev. A; PackageVersion: Rev. A, 01/2000; PackageReference: SMB-2-403C-01; PackageDescription: 2-Pin Small Molded Package, J-Bend Lead, Body 4.315 x 3.555 mm; Supplier 1: Digi-Key; Supplier Part Number 1: 1SMB64CAT3GOSTR-ND; Supplier 2: Digi-Key; Supplier Part Number 2: 1SMB64CAT3GOSCT-ND; Supplier 3: Digi-Key; Supplier Part Number 3: 1SMB64CAT3GOSDKR-ND; Supplier 4: Mouser; Supplier Part Number 4: 863-1SMB64CAT3G; Direction: Bidirectional; Packing: Tape and Reel; RoHS: Pb-Free; Mounting Technology: Surface Mount; ComponentLink1Description: Manufacturer URL; ComponentLink1URL: http://www.onsemi.com/; ComponentLink2Description: Datasheet; ComponentLink2URL: http://www.onsemi.com/pub_link/Collateral/1SMB10CAT3-D.PDF; ComponentLink3Description: Package Specification; ComponentLink3URL: http://www.onsemi.com/pub_link/Collateral/1SMB10CAT3-D.PDF
footprint ONSC-SMB-2-403C-01_V (SOJ, 2-Leads, Body 4.57x3.81mm)
pins: 1 A1, 2 A2

## 1SMB70AT3
designator D?
600 W Peak Power Zener Transient Voltage Suppressor, Unidirectional, 2-Pin SMB, Tape and Reel; Manufacturer: On Semiconductor; PartNumber: 1SMB70AT3; IR Max (uA): 5; PPK Max (W): 600; V(BR) Typ (V): 81.9; DatasheetVersion: Rev. 13; PackageVersion: Rev. H, 05/2011; PackageReference: SMB-2-403A-03_H; PackageDescription: 2-Pin Small Molded Package, J-Bend Lead, Body 4.33 x 3.625 mm; Supplier 1: Digi-Key; Supplier Part Number 1: 1SMB70AT3OSCT-ND; Supplier 2: Digi-Key; Supplier Part Number 2: 1SMB70AT3OSDKR-ND; Direction: Unidirectional; Packing: Tape and Reel; Mounting Technology: Surface Mount; ComponentLink1Description: Manufacturer URL; ComponentLink1URL: http://www.onsemi.com/; ComponentLink2Description: Datasheet; ComponentLink2URL: http://www.onsemi.com/pub_link/Collateral/1SMB5.0AT3-D.PDF; ComponentLink3Description: Package Specification; ComponentLink3URL: http://www.onsemi.com/pub_link/Collateral/1SMB5913BT3-D.PDF
footprint ONSC-SMB-2-403A-03_H_V (Molded, 2-Leads, Body 4.6x3.95mm)
pins: 1 K, 2 A

## 1SMB70AT3G
designator D?
600 W Peak Power Zener Transient Voltage Suppressor, Unidirectional, 2-Pin SMB, Pb-Free, Tape and Reel; Manufacturer: On Semiconductor; PartNumber: 1SMB70AT3G; IR Max (uA): 5; PPK Max (W): 600; V(BR) Typ (V): 81.9; DatasheetVersion: Rev. 13; PackageVersion: Rev. H, 05/2011; PackageReference: SMB-2-403A-03_H; PackageDescription: 2-Pin Small Molded Package, J-Bend Lead, Body 4.33 x 3.625 mm; Supplier 1: Digi-Key; Supplier Part Number 1: 1SMB70AT3GOSTR-ND; Supplier 2: Digi-Key; Supplier Part Number 2: 1SMB70AT3GOSCT-ND; Supplier 3: Digi-Key; Supplier Part Number 3: 1SMB70AT3GOSDKR-ND; Supplier 4: Newark; Supplier Part Number 4: 10N9674; Supplier 5: Newark; Supplier Part Number 5: 45J2464; Supplier 6: Mouser; Supplier Part Number 6: 863-1SMB70AT3G; Direction: Unidirectional; Packing: Tape and Reel; RoHS: Pb-Free; Mounting Technology: Surface Mount; ComponentLink1Description: Manufacturer URL; ComponentLink1URL: http://www.onsemi.com/; ComponentLink2Description: Datasheet; ComponentLink2URL: http://www.onsemi.com/pub_link/Collateral/1SMB5.0AT3-D.PDF; ComponentLink3Description: Package Specification; ComponentLink3URL: http://www.onsemi.com/pub_link/Collateral/1SMB5913BT3-D.PDF
footprint ONSC-SMB-2-403A-03_H_V (Molded, 2-Leads, Body 4.6x3.95mm)
pins: 1 K, 2 A

## 1SMB75AT3G
designator D?
600 W Peak Power Zener Transient Voltage Suppressor, Unidirectional, 2-Pin SMB, Pb-Free, Tape and Reel; Manufacturer: On Semiconductor; PartNumber: 1SMB75AT3G; IR Max (uA): 5; PPK Max (W): 600; V(BR) Typ (V): 87.7; DatasheetVersion: Rev. 13; PackageVersion: Rev. H, 05/2011; PackageReference: SMB-2-403A-03_H; PackageDescription: 2-Pin Small Molded Package, J-Bend Lead, Body 4.33 x 3.625 mm; Supplier 1: Digi-Key; Supplier Part Number 1: 1SMB75AT3GOSTR-ND; Supplier 2: Digi-Key; Supplier Part Number 2: 1SMB75AT3GOSCT-ND; Supplier 3: Digi-Key; Supplier Part Number 3: 1SMB75AT3GOSDKR-ND; Supplier 4: Newark; Supplier Part Number 4: 71J9233; Supplier 5: Mouser; Supplier Part Number 5: 863-1SMB75AT3G; Direction: Unidirectional; Packing: Tape and Reel; RoHS: Pb-Free; Mounting Technology: Surface Mount; ComponentLink1Description: Manufacturer URL; ComponentLink1URL: http://www.onsemi.com/; ComponentLink2Description: Datasheet; ComponentLink2URL: http://www.onsemi.com/pub_link/Collateral/1SMB5.0AT3-D.PDF; ComponentLink3Description: Package Specification; ComponentLink3URL: http://www.onsemi.com/pub_link/Collateral/1SMB5913BT3-D.PDF
footprint ONSC-SMB-2-403A-03_H_V (Molded, 2-Leads, Body 4.6x3.95mm)
pins: 1 K, 2 A

## 1SMB75CAT3G
designator D?
600 W Peak Power Zener Transient Voltage Suppressor, Bidirectional, 2-Pin SMB, Pb-Free, Tape and Reel; Manufacturer: On Semiconductor; PartNumber: 1SMB75CAT3G; IR Max (uA): 5; PPK Max (W): 600; V(BR) Typ (V): 91.65; DatasheetVersion: Rev. A; PackageVersion: Rev. A, 01/2000; PackageReference: SMB-2-403C-01; PackageDescription: 2-Pin Small Molded Package, J-Bend Lead, Body 4.315 x 3.555 mm; Supplier 1: Digi-Key; Supplier Part Number 1: 1SMB75CAT3GOSTR-ND; Supplier 2: Digi-Key; Supplier Part Number 2: 1SMB75CAT3GOSCT-ND; Supplier 3: Digi-Key; Supplier Part Number 3: 1SMB75CAT3GOSDKR-ND; Supplier 4: Newark; Supplier Part Number 4: 10N9675; Supplier 5: Mouser; Supplier Part Number 5: 863-1SMB75CAT3G; Direction: Bidirectional; Packing: Tape and Reel; RoHS: Pb-Free; Mounting Technology: Surface Mount; ComponentLink1Description: Manufacturer URL; ComponentLink1URL: http://www.onsemi.com/; ComponentLink2Description: Datasheet; ComponentLink2URL: http://www.onsemi.com/pub_link/Collateral/1SMB10CAT3-D.PDF; ComponentLink3Description: Package Specification; ComponentLink3URL: http://www.onsemi.com/pub_link/Collateral/1SMB10CAT3-D.PDF
footprint ONSC-SMB-2-403C-01_V (SOJ, 2-Leads, Body 4.57x3.81mm)
pins: 1 A1, 2 A2

## 1SMB85AT3G
designator D?
600 W Peak Power Zener Transient Voltage Suppressor, Unidirectional, 2-Pin SMB, Pb-Free, Tape and Reel; Manufacturer: On Semiconductor; PartNumber: 1SMB85AT3G; IR Max (uA): 55; PPK Max (W): 600; V(BR) Typ (V): 99.2; DatasheetVersion: Rev. 13; PackageVersion: Rev. H, 05/2011; PackageReference: SMB-2-403A-03_H; PackageDescription: 2-Pin Small Molded Package, J-Bend Lead, Body 4.33 x 3.625 mm; Supplier 1: Digi-Key; Supplier Part Number 1: 1SMB85AT3GOSTR-ND; Supplier 2: Digi-Key; Supplier Part Number 2: 1SMB85AT3GOSCT-ND; Supplier 3: Digi-Key; Supplier Part Number 3: 1SMB85AT3GOSDKR-ND; Supplier 4: Newark; Supplier Part Number 4: 42K3108; Supplier 5: Newark; Supplier Part Number 5: 10N9677; Supplier 6: Mouser; Supplier Part Number 6: 863-1SMB85AT3G; Direction: Unidirectional; Packing: Tape and Reel; RoHS: Pb-Free; Mounting Technology: Surface Mount; ComponentLink1Description: Manufacturer URL; ComponentLink1URL: http://www.onsemi.com/; ComponentLink2Description: Datasheet; ComponentLink2URL: http://www.onsemi.com/pub_link/Collateral/1SMB5.0AT3-D.PDF; ComponentLink3Description: Package Specification; ComponentLink3URL: http://www.onsemi.com/pub_link/Collateral/1SMB5913BT3-D.PDF
footprint ONSC-SMB-2-403A-03_H_V (Molded, 2-Leads, Body 4.6x3.95mm)
pins: 1 K, 2 A

## 1SMB90AT3G
designator D?
600 W Peak Power Zener Transient Voltage Suppressor, Unidirectional, 2-Pin SMB, Pb-Free, Tape and Reel; Manufacturer: On Semiconductor; PartNumber: 1SMB90AT3G; IR Max (uA): 5; PPK Max (W): 600; V(BR) Typ (V): 105.5; DatasheetVersion: Rev. 13; PackageVersion: Rev. H, 05/2011; PackageReference: SMB-2-403A-03_H; PackageDescription: 2-Pin Small Molded Package, J-Bend Lead, Body 4.33 x 3.625 mm; Supplier 1: Digi-Key; Supplier Part Number 1: 1SMB90AT3G-ND; Supplier 2: Newark; Supplier Part Number 2: 71J9234; Supplier 3: Mouser; Supplier Part Number 3: 863-1SMB90AT3G; Direction: Unidirectional; Packing: Tape and Reel; RoHS: Pb-Free; Mounting Technology: Surface Mount; ComponentLink1Description: Manufacturer URL; ComponentLink1URL: http://www.onsemi.com/; ComponentLink2Description: Datasheet; ComponentLink2URL: http://www.onsemi.com/pub_link/Collateral/1SMB5.0AT3-D.PDF; ComponentLink3Description: Package Specification; ComponentLink3URL: http://www.onsemi.com/pub_link/Collateral/1SMB5913BT3-D.PDF
footprint ONSC-SMB-2-403A-03_H_V (Molded, 2-Leads, Body 4.6x3.95mm)
pins: 1 K, 2 A

## 1SMB100AT3G
designator D?
600 W Peak Power Zener Transient Voltage Suppressor, Unidirectional, 2-Pin SMB, Pb-Free, Tape and Reel; Manufacturer: On Semiconductor; PartNumber: 1SMB100AT3G; IR Max (uA): 5; PPK Max (W): 600; V(BR) Typ (V): 117; DatasheetVersion: Rev. 13; PackageVersion: Rev. H, 05/2011; PackageReference: SMB-2-403A-03_H; PackageDescription: 2-Pin Small Molded Package, J-Bend Lead, Body 4.33 x 3.625 mm; Supplier 1: Digi-Key; Supplier Part Number 1: 1SMB100AT3GOSTR-ND; Supplier 2: Digi-Key; Supplier Part Number 2: 1SMB100AT3GOSCT-ND; Supplier 3: Digi-Key; Supplier Part Number 3: 1SMB100AT3GOSDKR-ND; Supplier 4: Newark; Supplier Part Number 4: 42K3080; Supplier 5: Mouser; Supplier Part Number 5: 863-1SMB100AT3G; Direction: Unidirectional; Packing: Tape and Reel; RoHS: Pb-Free; Mounting Technology: Surface Mount; ComponentLink1Description: Manufacturer URL; ComponentLink1URL: http://www.onsemi.com/; ComponentLink2Description: Datasheet; ComponentLink2URL: http://www.onsemi.com/pub_link/Collateral/1SMB5.0AT3-D.PDF; ComponentLink3Description: Package Specification; ComponentLink3URL: http://www.onsemi.com/pub_link/Collateral/1SMB5913BT3-D.PDF
footprint ONSC-SMB-2-403A-03_H_V (Molded, 2-Leads, Body 4.6x3.95mm)
pins: 1 K, 2 A

## 1SMB110AT3G
designator D?
600 W Peak Power Zener Transient Voltage Suppressor, Unidirectional, 2-Pin SMB, Pb-Free, Tape and Reel; Manufacturer: On Semiconductor; PartNumber: 1SMB110AT3G; IR Max (uA): 5; PPK Max (W): 600; V(BR) Typ (V): 128.5; DatasheetVersion: Rev. 13; PackageVersion: Rev. H, 05/2011; PackageReference: SMB-2-403A-03_H; PackageDescription: 2-Pin Small Molded Package, J-Bend Lead, Body 4.33 x 3.625 mm; Supplier 1: Digi-Key; Supplier Part Number 1: 1SMB110AT3G-ND; Supplier 2: Newark; Supplier Part Number 2: 83K8789; Supplier 3: Mouser; Supplier Part Number 3: 863-1SMB110AT3G; Direction: Unidirectional; Packing: Tape and Reel; RoHS: Pb-Free; Mounting Technology: Surface Mount; ComponentLink1Description: Manufacturer URL; ComponentLink1URL: http://www.onsemi.com/; ComponentLink2Description: Datasheet; ComponentLink2URL: http://www.onsemi.com/pub_link/Collateral/1SMB5.0AT3-D.PDF; ComponentLink3Description: Package Specification; ComponentLink3URL: http://www.onsemi.com/pub_link/Collateral/1SMB5913BT3-D.PDF
footprint ONSC-SMB-2-403A-03_H_V (Molded, 2-Leads, Body 4.6x3.95mm)
pins: 1 K, 2 A

## 1SMB120AT3G
designator D?
600 W Peak Power Zener Transient Voltage Suppressor, Unidirectional, 2-Pin SMB, Pb-Free, Tape and Reel; Manufacturer: On Semiconductor; PartNumber: 1SMB120AT3G; IR Max (uA): 5; PPK Max (W): 600; V(BR) Typ (V): 140; DatasheetVersion: Rev. 13; PackageVersion: Rev. H, 05/2011; PackageReference: SMB-2-403A-03_H; PackageDescription: 2-Pin Small Molded Package, J-Bend Lead, Body 4.33 x 3.625 mm; Supplier 1: Digi-Key; Supplier Part Number 1: 1SMB120AT3GOSTR-ND; Supplier 2: Digi-Key; Supplier Part Number 2: 1SMB120AT3GOSCT-ND; Supplier 3: Digi-Key; Supplier Part Number 3: 1SMB120AT3GOSDKR-ND; Supplier 4: Farnell; Supplier Part Number 4: 1364588; Supplier 5: Newark; Supplier Part Number 5: 42K3082; Supplier 6: Mouser; Supplier Part Number 6: 863-1SMB120AT3G; Direction: Unidirectional; Packing: Tape and Reel; RoHS: Pb-Free; Mounting Technology: Surface Mount; ComponentLink1Description: Manufacturer URL; ComponentLink1URL: http://www.onsemi.com/; ComponentLink2Description: Datasheet; ComponentLink2URL: http://www.onsemi.com/pub_link/Collateral/1SMB5.0AT3-D.PDF; ComponentLink3Description: Package Specification; ComponentLink3URL: http://www.onsemi.com/pub_link/Collateral/1SMB5913BT3-D.PDF
footprint ONSC-SMB-2-403A-03_H_V (Molded, 2-Leads, Body 4.6x3.95mm)
pins: 1 K, 2 A

## 1SMB130AT3G
designator D?
600 W Peak Power Zener Transient Voltage Suppressor, Unidirectional, 2-Pin SMB, Pb-Free, Tape and Reel; Manufacturer: On Semiconductor; PartNumber: 1SMB130AT3G; IR Max (uA): 5; PPK Max (W): 600; V(BR) Typ (V): 151.5; DatasheetVersion: Rev. 13; PackageVersion: Rev. H, 05/2011; PackageReference: SMB-2-403A-03_H; PackageDescription: 2-Pin Small Molded Package, J-Bend Lead, Body 4.33 x 3.625 mm; Supplier 1: Digi-Key; Supplier Part Number 1: 1SMB130AT3G-ND; Supplier 2: Newark; Supplier Part Number 2: 71J9205; Supplier 3: Mouser; Supplier Part Number 3: 863-1SMB130AT3G; Direction: Unidirectional; Packing: Tape and Reel; RoHS: Pb-Free; Mounting Technology: Surface Mount; ComponentLink1Description: Manufacturer URL; ComponentLink1URL: http://www.onsemi.com/; ComponentLink2Description: Datasheet; ComponentLink2URL: http://www.onsemi.com/pub_link/Collateral/1SMB5.0AT3-D.PDF; ComponentLink3Description: Package Specification; ComponentLink3URL: http://www.onsemi.com/pub_link/Collateral/1SMB5913BT3-D.PDF
footprint ONSC-SMB-2-403A-03_H_V (Molded, 2-Leads, Body 4.6x3.95mm)
pins: 1 K, 2 A

## 1SMB150AT3G
designator D?
600 W Peak Power Zener Transient Voltage Suppressor, Unidirectional, 2-Pin SMB, Pb-Free, Tape and Reel; Manufacturer: On Semiconductor; PartNumber: 1SMB150AT3G; IR Max (uA): 5; PPK Max (W): 600; V(BR) Typ (V): 176; DatasheetVersion: Rev. 13; PackageVersion: Rev. H, 05/2011; PackageReference: SMB-2-403A-03_H; PackageDescription: 2-Pin Small Molded Package, J-Bend Lead, Body 4.33 x 3.625 mm; Supplier 1: Digi-Key; Supplier Part Number 1: 1SMB150AT3G-ND; Supplier 2: Newark; Supplier Part Number 2: 42K3084; Supplier 3: Mouser; Supplier Part Number 3: 863-1SMB150AT3G; Direction: Unidirectional; Packing: Tape and Reel; RoHS: Pb-Free; Mounting Technology: Surface Mount; ComponentLink1Description: Manufacturer URL; ComponentLink1URL: http://www.onsemi.com/; ComponentLink2Description: Datasheet; ComponentLink2URL: http://www.onsemi.com/pub_link/Collateral/1SMB5.0AT3-D.PDF; ComponentLink3Description: Package Specification; ComponentLink3URL: http://www.onsemi.com/pub_link/Collateral/1SMB5913BT3-D.PDF
footprint ONSC-SMB-2-403A-03_H_V (Molded, 2-Leads, Body 4.6x3.95mm)
pins: 1 K, 2 A

## 1SMB160AT3G
designator D?
600 W Peak Power Zener Transient Voltage Suppressor, Unidirectional, 2-Pin SMB, Pb-Free, Tape and Reel; Manufacturer: On Semiconductor; PartNumber: 1SMB160AT3G; IR Max (uA): 5; PPK Max (W): 600; V(BR) Typ (V): 187.5; DatasheetVersion: Rev. 13; PackageVersion: Rev. H, 05/2011; PackageReference: SMB-2-403A-03_H; PackageDescription: 2-Pin Small Molded Package, J-Bend Lead, Body 4.33 x 3.625 mm; Supplier 1: Digi-Key; Supplier Part Number 1: 1SMB160AT3G-ND; Supplier 2: Newark; Supplier Part Number 2: 50M5923; Supplier 3: Mouser; Supplier Part Number 3: 863-1SMB160AT3G; Direction: Unidirectional; Packing: Tape and Reel; RoHS: Pb-Free; Mounting Technology: Surface Mount; ComponentLink1Description: Manufacturer URL; ComponentLink1URL: http://www.onsemi.com/; ComponentLink2Description: Datasheet; ComponentLink2URL: http://www.onsemi.com/pub_link/Collateral/1SMB5.0AT3-D.PDF; ComponentLink3Description: Package Specification; ComponentLink3URL: http://www.onsemi.com/pub_link/Collateral/1SMB5913BT3-D.PDF
footprint ONSC-SMB-2-403A-03_H_V (Molded, 2-Leads, Body 4.6x3.95mm)
pins: 1 K, 2 A

## 1SMB170AT3G
designator D?
600 W Peak Power Zener Transient Voltage Suppressor, Unidirectional, 2-Pin SMB, Pb-Free, Tape and Reel; Manufacturer: On Semiconductor; PartNumber: 1SMB170AT3G; IR Max (uA): 5; PPK Max (W): 600; V(BR) Typ (V): 199; DatasheetVersion: Rev. 13; PackageVersion: Rev. H, 05/2011; PackageReference: SMB-2-403A-03_H; PackageDescription: 2-Pin Small Molded Package, J-Bend Lead, Body 4.33 x 3.625 mm; Supplier 1: Digi-Key; Supplier Part Number 1: 1SMB170AT3GOSTR-ND; Supplier 2: Digi-Key; Supplier Part Number 2: 1SMB170AT3GOSCT-ND; Supplier 3: Digi-Key; Supplier Part Number 3: 1SMB170AT3GOSDKR-ND; Supplier 4: Newark; Supplier Part Number 4: 71J9207; Supplier 5: Mouser; Supplier Part Number 5: 863-1SMB170AT3G; Direction: Unidirectional; Packing: Tape and Reel; RoHS: Pb-Free; Mounting Technology: Surface Mount; ComponentLink1Description: Manufacturer URL; ComponentLink1URL: http://www.onsemi.com/; ComponentLink2Description: Datasheet; ComponentLink2URL: http://www.onsemi.com/pub_link/Collateral/1SMB5.0AT3-D.PDF; ComponentLink3Description: Package Specification; ComponentLink3URL: http://www.onsemi.com/pub_link/Collateral/1SMB5913BT3-D.PDF
footprint ONSC-SMB-2-403A-03_H_V (Molded, 2-Leads, Body 4.6x3.95mm)
pins: 1 K, 2 A

## 1SMC5.0AT3
designator D?
1500 W Peak Power Zener Transient Voltage Suppressor, Unidirectional, 2-Pin SMC, Tape and Reel; Manufacturer: On Semiconductor; PartNumber: 1SMC5.0AT3; IR Max (uA): 1000; PPK Max (W): 1500; V(BR) Typ (V): 6.7; DatasheetVersion: Rev. 8; PackageVersion: Rev. E, 08/2005; PackageReference: SMC-2-403-03; PackageDescription: 2-Pin Small Molded Package, J-Bend Lead, Body 5.845 x 6.855 mm; Supplier 1: Digi-Key; Supplier Part Number 1: 1SMC5.0AT3OSTR-ND; Supplier 2: Digi-Key; Supplier Part Number 2: 1SMC5.0AT3OSCT-ND; Direction: Unidirectional; Packing: Tape and Reel; Mounting Technology: Surface Mount; ComponentLink1Description: Manufacturer URL; ComponentLink1URL: http://www.onsemi.com/; ComponentLink2Description: Datasheet; ComponentLink2URL: http://www.onsemi.com/pub_link/Collateral/1SMC5.0AT3-D.PDF; ComponentLink3Description: Package Specification; ComponentLink3URL: http://www.onsemi.com/pub_link/Collateral/403-03.PDF
footprint ONSC-SMC-2-403-03_V (Molded, 2-Leads, Body 6.86x5.84mm)
pins: 1 K, 2 A